# EAGLE library part RT9400 (library POE-Module)
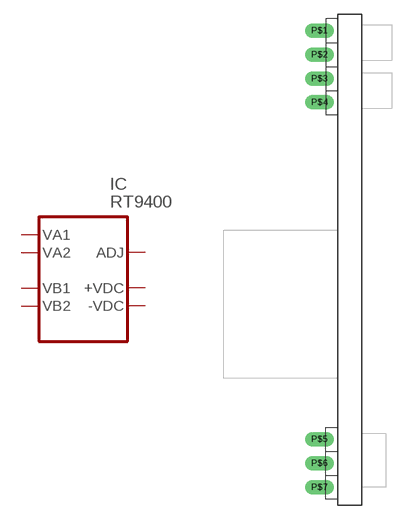
[diagram p0: symbol with the pads of RT9400; footprint RT9400]

Designator prefix IC

## RT9400  [RT9400]
P$1  VA1  in
P$2  VA2  in
P$3  VB1  in
P$4  VB2  in
P$5  -VDC  out
P$6  +VDC  out
P$7  ADJ  out

## Footprint RT9400 (pad centres in mm)
drill 1.016 long: P$1 -3.175,50.165; P$2 -3.175,47.625; P$3 -3.175,45.085; P$4 -3.175,42.585; P$5 -3.175,6.985; P$6 -3.175,4.445; P$7 -3.175,1.905